# EAGLE library part TRENZ_0725_FPGA_BOARD (library sgqparts)
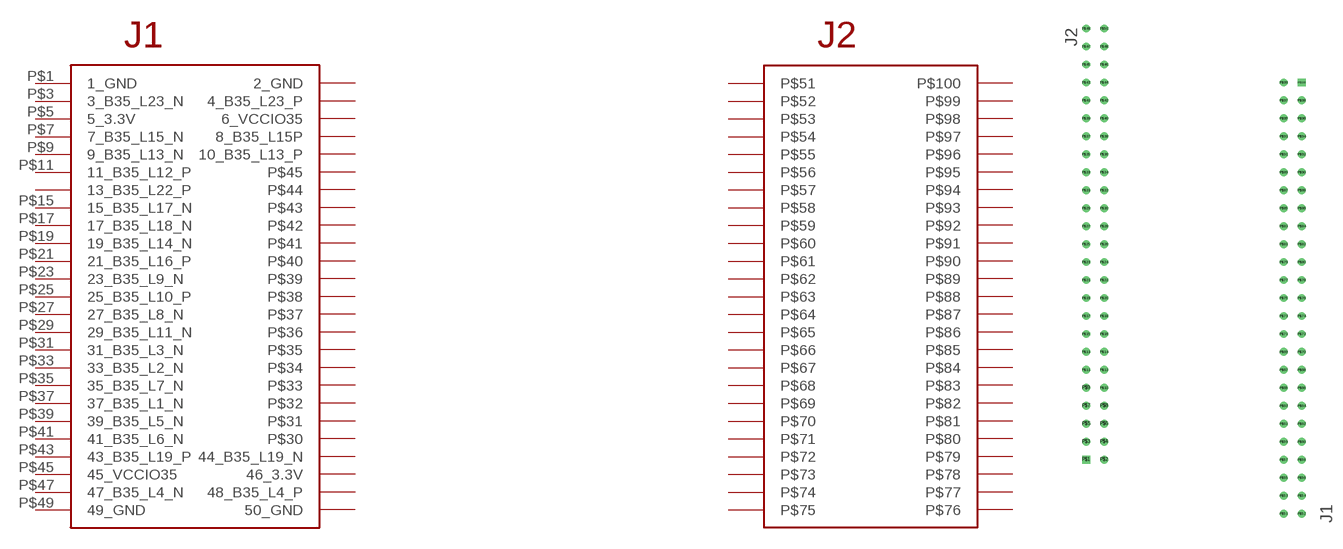
[diagram p1: symbol with the pads of TRENZ_0725; footprint TRENZ_0725]

Designator prefix -; gates G$1=T0725FPGA_J1 G$2=T0725FPGA_J2

## TRENZ_0725_FPGA_BOARD  [TRENZ_0725]
P$1  G$1:1_GND
P$3  G$1:3_B35_L23_N
P$5  G$1:5_3.3V
P$7  G$1:7_B35_L15_N
P$9  G$1:9_B35_L13_N
P$11  G$1:11_B35_L12_P
P$15  G$1:15_B35_L17_N
P$17  G$1:17_B35_L18_N
P$19  G$1:19_B35_L14_N
P$21  G$1:21_B35_L16_P
P$23  G$1:23_B35_L9_N
P$25  G$1:25_B35_L10_P
P$27  G$1:27_B35_L8_N
P$29  G$1:29_B35_L11_N
P$31  G$1:31_B35_L3_N
P$33  G$1:33_B35_L2_N
P$35  G$1:35_B35_L7_N
P$37  G$1:37_B35_L1_N
P$39  G$1:39_B35_L5_N
P$41  G$1:41_B35_L6_N
P$43  G$1:43_B35_L19_P
P$45  G$1:45_VCCIO35
P$47  G$1:47_B35_L4_N
P$49  G$1:49_GND

## Footprint TRENZ_0725 (pad centres in mm)
drill 0.6 square: P$1 -15.24,-27.94; P$100 15.24,25.4
drill 0.6: P$2 -12.7,-27.94; P$3 -15.24,-25.4; P$4 -12.7,-25.4; P$5 -15.24,-22.86; P$6 -12.7,-22.86; P$7 -15.24,-20.32; P$8 -12.7,-20.32; P$9 -15.24,-17.78; P$10 -12.7,-17.78; P$11 -15.24,-15.24; P$12 -12.7,-15.24; P$13 -15.24,-12.7; P$14 -12.7,-12.7; P$15 -15.24,-10.16; P$16 -12.7,-10.16; P$17 -15.24,-7.62; P$18 -12.7,-7.62; P$19 -15.24,-5.08; P$20 -12.7,-5.08; P$21 -15.24,-2.54; P$22 -12.7,-2.54; P$23 -15.24,0; P$24 -12.7,0; P$25 -15.24,2.54; P$26 -12.7,2.54; P$27 -15.24,5.08; P$28 -12.7,5.08; P$29 -15.24,7.62; P$30 -12.7,7.62; P$31 -15.24,10.16; P$32 -12.7,10.16; P$33 -15.24,12.7; P$34 -12.7,12.7; P$35 -15.24,15.24; P$36 -12.7,15.24; P$37 -15.24,17.78; P$38 -12.7,17.78; P$39 -15.24,20.32; P$40 -12.7,20.32; P$41 -15.24,22.86; P$42 -12.7,22.86; P$43 -15.24,25.4; P$44 -12.7,25.4; P$45 -15.24,27.94; P$46 -12.7,27.94; P$47 -15.24,30.48; P$48 -12.7,30.48; P$49 -15.24,33.02; P$50 -12.7,33.02; P$51 12.7,-35.56; P$52 15.24,-35.56; P$53 12.7,-33.02; P$54 15.24,-33.02; P$55 12.7,-30.48; P$56 15.24,-30.48; P$57 12.7,-27.94; P$58 15.24,-27.94; P$59 12.7,-25.4; P$60 15.24,-25.4; P$61 12.7,-22.86; P$62 15.24,-22.86; P$63 12.7,-20.32; P$64 15.24,-20.32; P$65 12.7,-17.78; P$66 15.24,-17.78; P$67 12.7,-15.24; P$68 15.24,-15.24; P$69 12.7,-12.7; P$70 15.24,-12.7; P$71 12.7,-10.16; P$72 15.24,-10.16; P$73 12.7,-7.62; P$74 15.24,-7.62; P$75 12.7,-5.08; P$76 15.24,-5.08; P$77 12.7,-2.54; P$78 15.24,-2.54; P$79 12.7,0; P$80 15.24,0; P$81 12.7,2.54; P$82 15.24,2.54; P$83 12.7,5.08; P$84 15.24,5.08; P$85 12.7,7.62; P$86 15.24,7.62; P$87 12.7,10.16; P$88 15.24,10.16; P$89 12.7,12.7; P$90 15.24,12.7; P$91 12.7,15.24; P$92 15.24,15.24; P$93 12.7,17.78; P$94 15.24,17.78; P$95 12.7,20.32; P$96 15.24,20.32; P$97 12.7,22.86; P$98 15.24,22.86; P$99 12.7,25.4